# Altium footprint library SparkFun-IC-Power.PCBLIB: 31 footprints (part 1 of 2)
Each footprint in its own frame and in the unit in brackets; x right, y up, seen from the top. Pads: shape width x height; smd on the part's side, far side on the other; paste and mask are expansions set on the pad; w line width, h text height; cw(c..) or ccw(c..) is an arc to the next point about the centre after c.
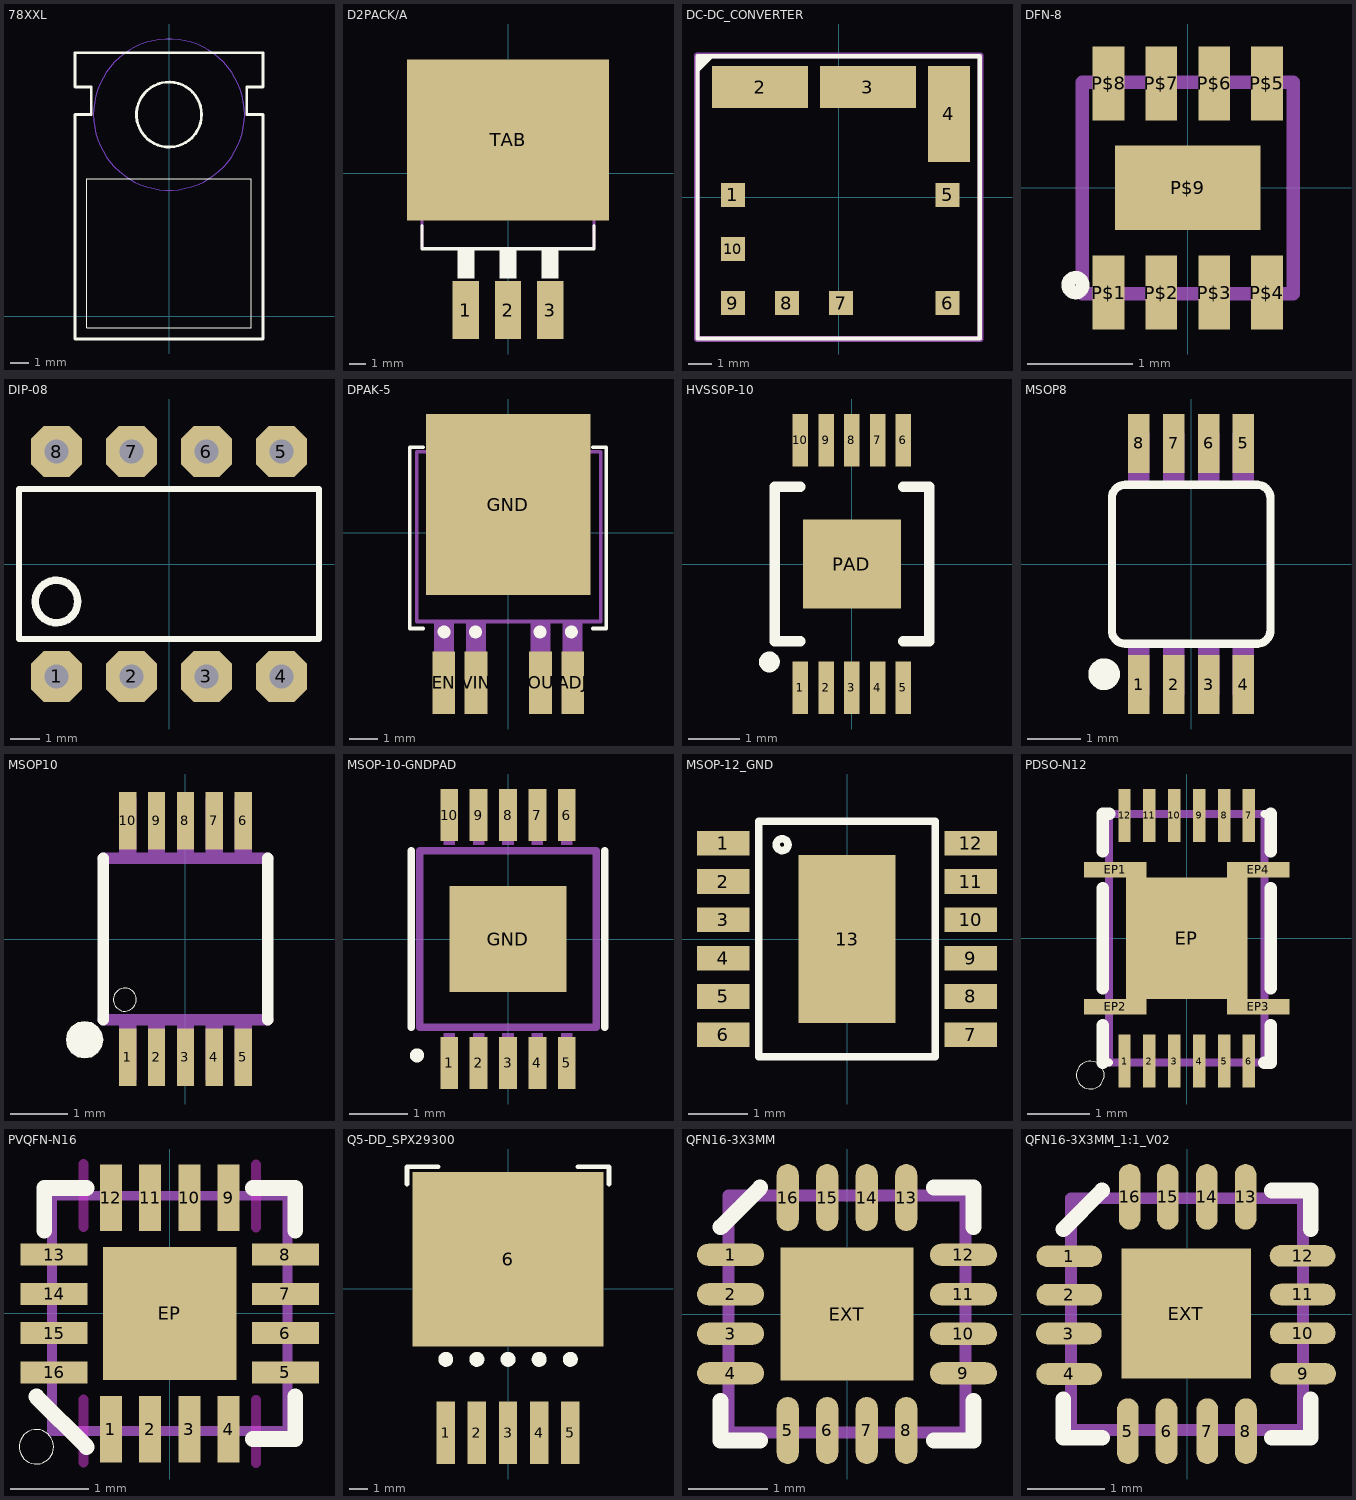
[diagram p0: the footprints below, top view; thin cyan lines are the x and y axes]

## 78XXL [mm]
Bottom Layer keep-out:
  circle w0: c0,11.176 r4.191
Top Overlay:
  circle w0.152: c0,11.176 r1.803
  lines w0.051: -4.572,-0.635 4.572,-0.635 4.572,7.62 -4.572,7.62 -4.572,-0.635
  lines w0.152: -5.207,-1.27 5.207,-1.27 5.207,11.176 4.318,11.176 4.318,12.7 5.207,12.7 5.207,14.605 -5.207,14.605 -5.207,12.7 -4.318,12.7 -4.318,11.176 -5.207,11.176 -5.207,-1.27

## D2PACK/A [mm]
pads (4):
  rect 1.6x3.5 smd: 1(-2.54,-8.275) 2(0,-8.275) 3(2.54,-8.275)
  rect 12.2x9.75 smd: TAB(0,2)
Top Overlay:
  rectangle: -0.525,-6.375 0.525,-4.475
  rectangle: -3.065,-6.375 -2.015,-4.475
  rectangle: 2.015,-6.375 3.065,-4.475
  lines w0.203: -5.2,-3.175 -5.2,-4.575 5.2,-4.575 5.2,-3.175
Mechanical 16:
  rectangle: -0.525,-9.775 0.525,-6.575
  rectangle: 2.015,-9.775 3.065,-6.575
  rectangle: -3.065,-9.775 -2.015,-6.575
  region: 0,0 0.254,0 0.254,0.254 0,0.254
  region: 0,0 0.254,0 0.254,0.254 0,0.254
  lines w0.203: -5.2,-4.575 -5.2,4.575 ; 5.2,-4.575 5.2,4.575

## DC-DC_CONVERTER [mm]
pads (10):
  rect 1.01x1.01 smd: 1(-4.48,0.1) 5(4.61,0.1) 6(4.61,-4.48) 7(0.1,-4.48) 8(-2.19,-4.48) 9(-4.48,-4.48) 10(-4.48,-2.19)
  rect 4.07x1.77 smd: 2(-3.33,4.67) 3(1.24,4.67)
  rect 1.77x4.07 smd: 4(4.67,3.53)
Top Overlay:
  lines w0.178: -5.918,5.436 -5.41,5.944 ; -5.973,-5.973 5.973,-5.973 5.973,5.973 -5.973,5.973 -5.973,-5.973
  lines w0.254: -5.918,5.69 -5.69,5.918
Mechanical 16:
  lines w0.25: -6,-6 6,-6 6,6 -6,6 -6,-6

## DFN-8 [mm]
pads (9):
  rect 0.3x0.7 smd: P$1(-0.75,-0.99) P$2(-0.25,-0.99) P$3(0.25,-0.99) P$4(0.75,-0.99) P$5(0.75,0.99) P$6(0.25,0.99) P$7(-0.25,0.99) P$8(-0.75,0.99)
  rect 1.38x0.8 smd: P$9(0,0)
Top Overlay:
  circle w0.127: c-1.063,-0.92 r0.071
  circle w0.127: c-1.063,-0.92 r0.071
Top Paste:
  rectangle: -0.875,-1.338 -0.625,-0.7
  rectangle: -0.375,0.7 -0.125,1.338
  rectangle: -0.875,0.7 -0.625,1.338
  rectangle: 0.125,0.7 0.375,1.338
  rectangle: 0.625,0.7 0.875,1.338
  rectangle: -0.375,-1.338 -0.125,-0.7
  rectangle: 0.125,-1.338 0.375,-0.7
  rectangle: 0.625,-1.338 0.875,-0.7
  rectangle: 0.09,-0.32 0.59,0.32
  rectangle: -0.59,-0.32 -0.09,0.32
Top Solder:
  rectangle: -0.97,0.57 -0.53,1.41
  rectangle: -0.47,0.57 -0.03,1.41
  rectangle: 0.03,0.57 0.47,1.41
  rectangle: 0.53,0.57 0.97,1.41
  rectangle: 0.53,-1.43 0.97,-0.59
  rectangle: 0.03,-1.43 0.47,-0.59
  rectangle: -0.47,-1.43 -0.03,-0.59
  rectangle: -0.97,-1.43 -0.53,-0.59
  rectangle: -0.76,-0.47 0.76,0.47
Mechanical 16:
  lines w0.127: -1,-1 1,-1 1,1 -1,1 -1,-1

## DIP-08 [mil]
pads (8):
  oct 68x68 hole 32: 1(-150,-150) 2(-50,-150) 3(50,-150) 4(150,-150) 5(150,150) 6(50,150) 7(-50,150) 8(-150,150)
Top Overlay:
  circle w10: c-150,-50 r28.28
  lines w8: -200,-40 -200,-60 ; -200,-60 -200,100 200,100 200,-100 -200,-100 -200,-60

## DPAK-5 [mil]
pads (5):
  rect 31.5x86.61 smd: ADJ(89.76,-208.66) EN(-89.76,-208.66) VIN(-44.88,-208.66) VOUT(44.88,-208.66)
  rect 228.35x251.97 smd: GND(0,39.37)
Top Overlay:
  circle w10: c-89.37,-137.8 r3.94
  circle w10: c-45.67,-137.8 r3.94
  circle w10: c44.09,-137.8 r3.94
  circle w10: c87.8,-137.8 r3.94
  lines w5: -121.65,119.29 -137.01,119.29 ; -118.11,-133.07 -137.01,-133.07 -137.01,119.29 ; -118.11,119.29 -137.01,119.29 ; 117.32,-133.07 136.22,-133.07 ; 117.32,119.29 136.22,119.29 136.22,-133.07 ; 120.87,-133.07 136.22,-133.07
Mechanical 16:
  rectangle: -103.15,-228.35 -75.59,-122.05
  rectangle: -58.66,-228.35 -31.1,-122.05
  rectangle: 31.1,-227.95 58.66,-121.65
  rectangle: 75.59,-227.95 103.15,-121.65
  lines w5: 90.16,113.39 90.16,141.73 80.32,151.57 -77.17,151.57 -87.01,141.73 -87.01,112.99 ; -87.01,112.99 128.35,112.99 128.35,-123.23 -127.56,-123.23 -127.56,112.99 -87.01,112.99

## HVSS0P-10 [mm]
pads (11):
  rect 0.3x1.02 smd: 1(-1,-2.4) 2(-0.5,-2.4) 3(0,-2.4) 4(0.5,-2.4) 5(1,-2.4) 6(1,2.4) 7(0.5,2.4) 8(0,2.4) 9(-0.5,2.4) 10(-1,2.4)
  rect 1.905x1.727 smd: PAD(0,0)
Top Overlay:
  circle w0.203: c-1.6,-1.9 r0.1
  lines w0.203: -1,-1.5 -1.5,-1.5 -1.5,1.5 -1,1.5 ; 1,-1.5 1.5,-1.5 1.5,1.5 1,1.5

## MSOP8 [mm]
pads (8):
  rect 0.4x1.1 smd: 1(-0.975,-2.25) 2(-0.325,-2.25) 3(0.325,-2.25) 4(0.975,-2.25) 5(0.975,2.25) 6(0.325,2.25) 7(-0.325,2.25) 8(-0.975,2.25)
Top Overlay:
  circle w0.406: c-1.626,-2.057 r0.092
  lines w0.152: -1.48,-1.24 ccw(c-1.23,-1.24) -1.23,-1.49 ; -1.48,-1.23 -1.48,1.23 cw(c-1.23,1.23) -1.23,1.48 ; -1.22,-1.49 1.24,-1.49 ; -1.22,1.48 1.24,1.48 ; 1.23,-1.49 ccw(c1.23,-1.24) 1.48,-1.24 1.48,1.23 ccw(c1.23,1.23) 1.23,1.48
Mechanical 16:
  rectangle: -1.175,-2.45 -0.775,-1.55
  rectangle: -0.525,-2.45 -0.125,-1.55
  rectangle: 0.125,-2.45 0.525,-1.55
  rectangle: 0.775,-2.45 1.175,-1.55
  rectangle: 0.775,1.55 1.175,2.45
  rectangle: 0.125,1.55 0.525,2.45
  rectangle: -0.525,1.55 -0.125,2.45
  rectangle: -1.175,1.55 -0.775,2.45

## MSOP10 [mm]
pads (10):
  rect 0.3x1 smd: 1(-1,-2.05) 2(-0.5,-2.05) 3(0,-2.05) 4(0.5,-2.05) 5(1,-2.05) 6(1,2.05) 7(0.5,2.05) 8(0,2.05) 9(-0.5,2.05) 10(-1,2.05)
Top Overlay:
  circle w0: c-1.05,-1.05 r0.2
  region: -1.423,-1.746 -1.447,-1.622 -1.517,-1.517 -1.622,-1.447 -1.746,-1.423 -1.87,-1.447 -1.975,-1.517 -2.045,-1.622 -2.07,-1.746 -2.045,-1.87 -1.975,-1.975 -1.87,-2.045 -1.746,-2.07 -1.622,-2.045 -1.517,-1.975 -1.447,-1.87
  lines w0.203: -1.425,-1.4 -1.425,1.4 ; 1.425,-1.4 1.425,1.4
Top Paste:
  rectangle: -1.125,-2.5 -0.875,-1.625
  rectangle: -0.625,-2.5 -0.375,-1.625
  rectangle: -0.125,-2.5 0.125,-1.625
  rectangle: 0.375,-2.5 0.625,-1.625
  rectangle: 0.875,-2.5 1.125,-1.625
  region: 1.125,2.5 0.875,2.5 0.875,1.625 1.125,1.625
  region: 0.625,2.5 0.375,2.5 0.375,1.625 0.625,1.625
  region: 0.125,2.5 -0.125,2.5 -0.125,1.625 0.125,1.625
  region: -0.375,2.5 -0.625,2.5 -0.625,1.625 -0.375,1.625
  region: -0.875,2.5 -1.125,2.5 -1.125,1.625 -0.875,1.625
Top Solder:
  rectangle: -1.2,-2.6 -0.8,-1.5
  rectangle: -0.7,-2.6 -0.3,-1.5
  rectangle: -0.2,-2.6 0.2,-1.5
  rectangle: 0.3,-2.6 0.7,-1.5
  rectangle: 0.8,-2.6 1.2,-1.5
  region: 1.2,2.6 0.8,2.6 0.8,1.5 1.2,1.5
  region: 0.7,2.6 0.3,2.6 0.3,1.5 0.7,1.5
  region: 0.2,2.6 -0.2,2.6 -0.2,1.5 0.2,1.5
  region: -0.3,2.6 -0.7,2.6 -0.7,1.5 -0.3,1.5
  region: -0.8,2.6 -1.2,2.6 -1.2,1.5 -0.8,1.5
Mechanical 16:
  rectangle: -1.15,-2.45 -0.85,-1.475
  rectangle: -0.65,-2.45 -0.35,-1.475
  rectangle: -0.15,-2.45 0.15,-1.475
  rectangle: 0.35,-2.45 0.65,-1.475
  rectangle: 0.85,-2.45 1.15,-1.475
  region: 1.15,2.45 0.85,2.45 0.85,1.475 1.15,1.475
  region: 0.65,2.45 0.35,2.45 0.35,1.475 0.65,1.475
  region: 0.15,2.45 -0.15,2.45 -0.15,1.475 0.15,1.475
  region: -0.35,2.45 -0.65,2.45 -0.65,1.475 -0.35,1.475
  region: -0.85,2.45 -1.15,2.45 -1.15,1.475 -0.85,1.475
  lines w0.203: -1.425,-1.4 1.425,-1.4 ; -1.425,1.4 1.425,1.4

## MSOP-10-GNDPAD [mil]
pads (11):
  rect 12.01x35 smd: 1(-39.37,-83.05) 2(-19.69,-83.05) 3(0,-83.05) 4(19.69,-83.05) 5(39.37,-83.05) 6(39.37,83.05) 7(19.69,83.05) 8(0,83.05) 9(-19.69,83.05) 10(-39.37,83.05)
  rect 78.74x70.87 smd: GND(0,0)
Top Overlay:
  circle w5: c-61,-78 r2.23
  lines w5: -64.99,-59.06 -64.99,59.06 ; 64.99,-59.06 64.99,59.06
Top Paste:
  rectangle: -19.69,-19.69 19.69,19.69
Mechanical 16:
  rectangle: 35.43,-96.46 43.31,-62.99
  rectangle: 15.75,-96.46 23.62,-62.99
  rectangle: -3.94,-96.46 3.94,-62.99
  rectangle: -23.62,-96.46 -15.75,-62.99
  rectangle: -43.31,-96.46 -35.43,-62.99
  rectangle: 35.43,62.99 43.31,96.46
  rectangle: 15.75,62.99 23.62,96.46
  rectangle: -3.94,62.99 3.94,96.46
  rectangle: -23.62,62.99 -15.75,96.46
  rectangle: -43.31,62.99 -35.43,96.46
  lines w5: -59.06,-59.06 59.06,-59.06 59.06,59.06 -59.06,59.06 -59.06,-59.06

## MSOP-12_GND [mil]
pads (13):
  rect 35x16.54 smd: 1(-82.68,63.98) 2(-82.68,38.39) 3(-82.68,12.8) 4(-82.68,-12.8) 5(-82.68,-38.39) 6(-82.68,-63.98) 7(82.68,-63.98) 8(82.68,-38.39) 9(82.68,-12.8) 10(82.68,12.8) 11(82.68,38.39) 12(82.68,63.98)
  rect 65x112.01 smd: 13(0,0)
Top Overlay:
  circle w5: c-43.31,62.99 r3.94
  lines w5: -59.06,-78.74 -59.06,78.74 59.06,78.74 59.06,-78.74 -59.06,-78.74
Top Paste:
  rectangle: -27.56,7.87 -3.94,51.18
  rectangle: 3.94,7.87 27.56,51.18
  rectangle: 3.94,-51.18 27.56,-7.87
  rectangle: -27.56,-51.18 -3.94,-7.87

## PDSO-N12 [mm]
pads (17):
  rect 0.2x0.85 smd: 1(-1,-1.975) 2(-0.6,-1.975) 3(-0.2,-1.975) 4(0.2,-1.975) 5(0.6,-1.975) 6(1,-1.975) 7(1,1.975) 8(0.6,1.975) 9(0.2,1.975) 10(-0.2,1.975) 11(-0.6,1.975) 12(-1,1.975)
  rect 1.95x1.95 smd: EP(0,0)
  rect 1x0.25 smd: EP1(-1.15,1.1) EP2(-1.15,-1.1) EP3(1.15,-1.1) EP4(1.15,1.1)
Top Layer:
  region: 0,0 0.254,0 0.254,0.254 0,0.254
Top Overlay:
  circle w0: c-1.55,-2.2 r0.224
  lines w0.127: -1.35,-2 -1.25,-2 ; 1.25,2 1.35,2
  lines w0.203: -1.35,-2 -1.35,-1.4 ; -1.35,-0.8 -1.35,0.8 ; -1.35,1.4 -1.35,2 -1.25,2 ; 1.25,-2 1.35,-2 1.35,-1.4 ; 1.35,-0.8 1.35,0.8 ; 1.35,1.4 1.35,2
Top Paste:
  rectangle: -0.9,0.1 -0.1,1.1
  region: 0.9,-0.1 0.1,-0.1 0.1,-1.1 0.9,-1.1
  region: 0.9,1.1 0.1,1.1 0.1,0.1 0.9,0.1
  rectangle: -0.9,-1.1 -0.1,-0.1
  rectangle: -1.625,0.975 -1.1,1.225
  region: 1.625,-0.975 1.1,-0.975 1.1,-1.225 1.625,-1.225
  region: 1.625,1.225 1.1,1.225 1.1,0.975 1.625,0.975
  rectangle: -1.625,-1.225 -1.1,-0.975
  rectangle: 0.1,1.575 0.3,2.375
  rectangle: 0.5,1.575 0.7,2.375
  rectangle: 0.5,1.575 0.7,2.375
  rectangle: 0.9,1.575 1.1,2.375
  rectangle: -0.3,1.575 -0.1,2.375
  rectangle: -0.7,1.575 -0.5,2.375
  rectangle: -1.1,1.575 -0.9,2.375
  region: -0.9,-1.575 -1.1,-1.575 -1.1,-2.375 -0.9,-2.375
  region: -0.5,-1.575 -0.7,-1.575 -0.7,-2.375 -0.5,-2.375
  region: -0.1,-1.575 -0.3,-1.575 -0.3,-2.375 -0.1,-2.375
  region: 0.3,-1.575 0.1,-1.575 0.1,-2.375 0.3,-2.375
  region: 0.7,-1.575 0.5,-1.575 0.5,-2.375 0.7,-2.375
  region: 1.1,-1.575 0.9,-1.575 0.9,-2.375 1.1,-2.375
Top Solder:
  rectangle: -1.75,0.875 1.75,1.325
  region: 1.75,-0.875 -1.75,-0.875 -1.75,-1.325 1.75,-1.325
Mechanical 16:
  lines w0.127: -1.25,-2 -1.25,2 1.25,2 1.25,-2 -1.25,-2

## PVQFN-N16 [mm]
pads (17):
  rect 0.28x0.85 smd: 1(-0.75,-1.475) 2(-0.25,-1.475) 3(0.25,-1.475) 4(0.75,-1.475) 9(0.75,1.475) 10(0.25,1.475) 11(-0.25,1.475) 12(-0.75,1.475)
  rect 0.85x0.28 smd: 5(1.475,-0.75) 6(1.475,-0.25) 7(1.475,0.25) 8(1.475,0.75) 13(-1.475,0.75) 14(-1.475,0.25) 15(-1.475,-0.25) 16(-1.475,-0.75)
  rect 1.7x1.7 smd: EP(0,0)
Top Layer keep-out:
  lines w0.127: -1.1,-1.9 -1.1,-1.095 ; -1.1,1.1 -1.1,1.905 ; 1.1,-1.905 1.1,-1.1 ; 1.1,1.095 1.1,1.9
Top Overlay:
  circle w0: c-1.7,-1.7 r0.219
  lines w0.203: -1.7,-1.06 -1.06,-1.7 ; -1.6,1.06 -1.6,1.6 -1.06,1.6 ; 1.06,-1.6 1.6,-1.6 1.6,-1.06 ; 1.06,1.6 1.6,1.6 1.6,1.06
Top Paste:
  rectangle: -0.865,-1.875 -0.635,-1.075
  rectangle: -0.365,-1.875 -0.135,-1.075
  rectangle: 0.135,-1.875 0.365,-1.075
  rectangle: 0.635,-1.875 0.865,-1.075
  region: 1.875,-0.865 1.875,-0.635 1.075,-0.635 1.075,-0.865
  region: 1.875,-0.365 1.875,-0.135 1.075,-0.135 1.075,-0.365
  region: 1.875,0.135 1.875,0.365 1.075,0.365 1.075,0.135
  region: 1.875,0.635 1.875,0.865 1.075,0.865 1.075,0.635
  region: 0.865,1.875 0.635,1.875 0.635,1.075 0.865,1.075
  region: 0.365,1.875 0.135,1.875 0.135,1.075 0.365,1.075
  region: -0.135,1.875 -0.365,1.875 -0.365,1.075 -0.135,1.075
  region: -0.635,1.875 -0.865,1.875 -0.865,1.075 -0.635,1.075
  region: -1.875,0.865 -1.875,0.635 -1.075,0.635 -1.075,0.865
  region: -1.875,0.365 -1.875,0.135 -1.075,0.135 -1.075,0.365
  region: -1.875,-0.135 -1.875,-0.365 -1.075,-0.365 -1.075,-0.135
  region: -1.875,-0.635 -1.875,-0.865 -1.075,-0.865 -1.075,-0.635
  rectangle: 0.1,0.1 0.8,0.8
  region: -0.1,-0.1 -0.8,-0.1 -0.8,-0.8 -0.1,-0.8
  region: -0.1,0.1 -0.1,0.8 -0.8,0.8 -0.8,0.1
  region: 0.1,-0.1 0.1,-0.8 0.8,-0.8 0.8,-0.1
Mechanical 16:
  drawing of 21 lines, arcs and shapes, not listed

## Q5-DD_SPX29300 [mm]
pads (6):
  rect 1x3.4 smd: 1(-3.4,-7.875) 2(-1.7,-7.875) 3(0,-7.875) 4(1.7,-7.875) 5(3.4,-7.875)
  rect 10.414x9.525 smd: 6(0,1.595)
Top Overlay:
  circle w0.406: c-3.4,-3.861 r0.205
  circle w0.406: c-1.7,-3.861 r0.205
  circle w0.406: c0,-3.861 r0.205
  circle w0.406: c1.7,-3.861 r0.205
  circle w0.406: c3.4,-3.861 r0.205
  lines w0.254: -5.512,5.69 -5.512,6.655 -3.81,6.655 ; 3.81,6.655 5.512,6.655 5.512,5.69
Top Paste:
  rectangle: -3.81,2.54 -1.27,5.08
  rectangle: 1.27,2.54 3.81,5.08
  rectangle: 1.27,-2.54 3.81,0
  rectangle: -3.81,-2.54 -1.27,0

## QFN16-3X3MM [mm]
pads (17):
  rrect100% 0.85x0.28 smd: 1(-1.475,0.75) 2(-1.475,0.25) 3(-1.475,-0.25) 4(-1.475,-0.75) 9(1.475,-0.75) 10(1.475,-0.25) 11(1.475,0.25) 12(1.475,0.75)
  rrect100% 0.28x0.85 smd: 5(-0.75,-1.475) 6(-0.25,-1.475) 7(0.25,-1.475) 8(0.75,-1.475) 13(0.75,1.475) 14(0.25,1.475) 15(-0.25,1.475) 16(-0.75,1.475)
  rect 1.68x1.68 smd: EXT(0,0)
Top Overlay:
  lines w0.203: -1.6,-1.1 -1.6,-1.6 -1.1,-1.6 ; -1.6,1.1 -1.1,1.6 ; 1.1,-1.6 1.6,-1.6 1.6,-1.1 ; 1.1,1.6 1.6,1.6 1.6,1.1
Top Paste:
  rectangle: -0.6,0.15 -0.15,0.6
  rectangle: 0.15,0.15 0.6,0.6
  rectangle: 0.15,-0.6 0.6,-0.15
  rectangle: -0.6,-0.6 -0.15,-0.15
  lines w0.203: -1.8,-0.75 -1.15,-0.75 ; -1.8,-0.25 -1.15,-0.25 ; -1.8,0.25 -1.15,0.25 ; -1.8,0.75 -1.15,0.75 ; -0.75,-1.8 -0.75,-1.15 ; -0.75,1.15 -0.75,1.8 ; -0.25,-1.8 -0.25,-1.15 ; -0.25,1.15 -0.25,1.8 ; 0.25,-1.8 0.25,-1.15 ; 0.25,1.15 0.25,1.8 ; 0.75,-1.8 0.75,-1.15 ; 0.75,1.15 0.75,1.8 ; 1.15,-0.75 1.8,-0.75 ; 1.15,-0.25 1.8,-0.25 ; 1.15,0.25 1.8,0.25 ; 1.15,0.75 1.8,0.75
Mechanical 16:
  lines w0.152: -1.5,-1.5 -1.5,1.5 1.5,1.5 1.5,-1.5 -1.5,-1.5

## QFN16-3X3MM_1:1_V02 [mm]
pads (17):
  rrect100% 0.85x0.28 smd: 1(-1.524,0.75) 2(-1.524,0.252) 3(-1.529,-0.25) 4(-1.527,-0.774) 9(1.503,-0.77) 10(1.498,-0.245) 11(1.498,0.255) 12(1.495,0.755)
  rrect100% 0.28x0.85 smd: 5(-0.765,-1.513) 6(-0.265,-1.513) 7(0.263,-1.513) 8(0.763,-1.513) 13(0.758,1.518) 14(0.258,1.518) 15(-0.247,1.518) 16(-0.742,1.518)
  rect 1.68x1.68 smd: EXT(-0.009,0.008)
Top Overlay:
  lines w0.203: -1.6,-1.1 -1.6,-1.6 -1.1,-1.6 ; -1.6,1.1 -1.1,1.6 ; 1.1,-1.6 1.6,-1.6 1.6,-1.1 ; 1.1,1.6 1.6,1.6 1.6,1.1
Top Paste:
  rectangle: -0.6,0.15 -0.15,0.6
  rectangle: 0.15,0.15 0.6,0.6
  rectangle: 0.15,-0.6 0.6,-0.15
  rectangle: -0.6,-0.6 -0.15,-0.15
  lines w0.203: -1.853,-0.773 -1.203,-0.773 ; -1.853,-0.25 -1.203,-0.25 ; -1.851,0.252 -1.201,0.252 ; -1.85,0.751 -1.2,0.751 ; -0.765,-1.838 -0.765,-1.188 ; -0.742,1.193 -0.742,1.843 ; -0.265,-1.838 -0.265,-1.188 ; -0.247,1.196 -0.247,1.846 ; 0.258,1.196 0.258,1.846 ; 0.26,-1.838 0.26,-1.188 ; 0.758,1.193 0.758,1.843 ; 0.763,-1.841 0.763,-1.191 ; 1.17,-0.245 1.82,-0.245 ; 1.17,0.255 1.82,0.255 ; 1.173,0.755 1.818,0.755 ; 1.178,-0.768 1.828,-0.768
Mechanical 16:
  lines w0.152: -1.5,-1.5 -1.5,1.5 1.5,1.5 1.5,-1.5 -1.5,-1.5